# Altium schematic symbol library Probe.SCHLIB: 15 symbols
Pins are listed as number, name and electrical type; pins without a type are passive.

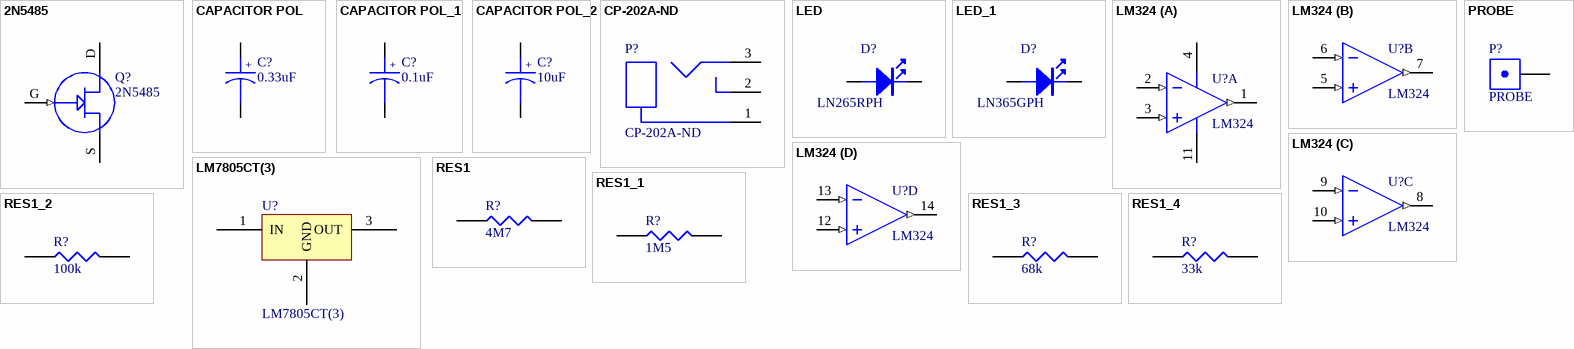
[diagram p0: symbols 2N5485 to RES1_4]

## 2N5485
designator Q?
N-channel JFET
pins: D, G (in), S

## CAPACITOR POL
designator C?, comment 0.33uF
Polarized Capacitor
footprint RAD0.2
pins: 1, 2
text: +

## CAPACITOR POL_1
designator C?, comment 0.1uF
Polarized Capacitor
footprint RAD0.2
pins: 1, 2
text: +

## CAPACITOR POL_2
designator C?, comment 10uF
Polarized Capacitor
footprint RAD0.2-POL (Capacitor (Radial); 2 Leads)
pins: 1, 2
text: +

## CP-202A-ND
designator P?
Male Power Jack, PCB
footprint CP-202A-ND
pins: 1, 2, 3

## LED
designator D?, comment LN265RPH
Light Emitting Diode LED
footprint LN265PH
pins: A, K

## LED_1
designator D?, comment LN365GPH
Light Emitting Diode LED
footprint LN265PH
pins: A, K

## LM324
designator U?
Quad (4) Operational Amplifier
footprint DIP14
part A pins: 1 1 OUT (out), 2 1 IN- (in), 3 1 IN+ (in), 4 VCC (power), 11 VEE (power)
part B pins: 5 2 IN+ (in), 6 2 IN- (in), 7 2 OUT (out)
part C pins: 8 3 OUT (out), 9 3 IN- (in), 10 3 IN+ (in)
part D pins: 12 4 IN+ (in), 13 4 IN- (in), 14 4 OUT (out)

## LM7805CT(3)
designator U?
Three Terminal Voltage Regulator
footprint TO-220
pins: 1 IN (power), 2 GND (power), 3 OUT (power)

## PROBE
designator P?
footprint PROBE
pins: 1

## RES1
designator R?, comment 4M7
Resistor
footprint Axial0.5
pins: 1, 2

## RES1_1
designator R?, comment 1M5
Resistor
footprint Axial0.5
pins: 1, 2

## RES1_2
designator R?, comment 100k
Resistor
footprint Axial0.5
pins: 1, 2

## RES1_3
designator R?, comment 68k
Resistor
footprint Axial0.5
pins: 1, 2

## RES1_4
designator R?, comment 33k
Resistor
footprint Axial0.5
pins: 1, 2